# EAGLE library part DF12A-60DS (library sf-keyglove)
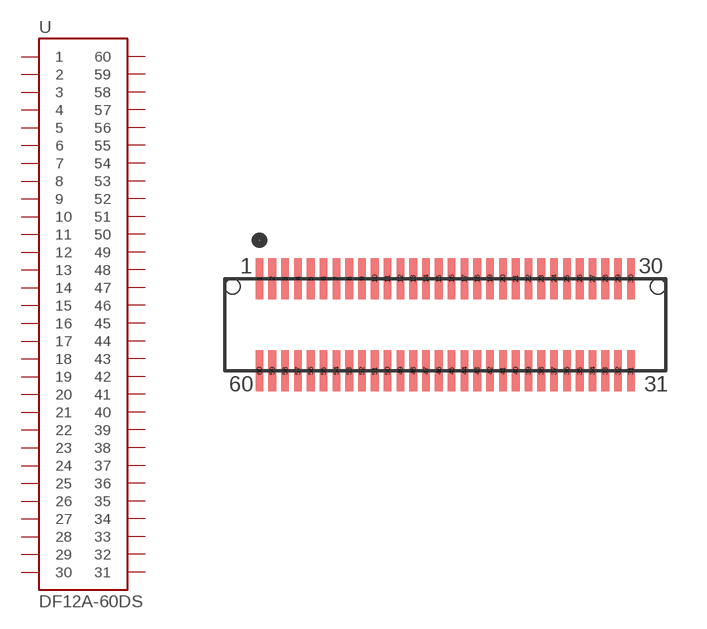
[diagram p14: symbol with the pads of DF12A-60DS; footprint DF12A-60DS]

Designator prefix -

## DF12A-60DS  [DF12A-60DS]
1  1
2  2
3  3
4  4
5  5
6  6
7  7
8  8
9  9
10  10
11  11
12  12
13  13
14  14
15  15
16  16
17  17
18  18
19  19
20  20
21  21
22  22
23  23
24  24
25  25
26  26
27  27
28  28
29  29
30  30
31  31
32  32
33  33
34  34
35  35
36  36
37  37
38  38
39  39
40  40
41  41
42  42
43  43
44  44
45  45
46  46
47  47
48  48
49  49
50  50
51  51
52  52
53  53
54  54
55  55
56  56
57  57
58  58
59  59
60  60

## Footprint DF12A-60DS (pad centres in mm)
smd 0.3 x 1.6: 1 -7.25,1.8; 2 -6.75,1.8; 3 -6.25,1.8; 4 -5.75,1.8; 5 -5.25,1.8; 6 -4.75,1.8; 7 -4.25,1.8; 8 -3.75,1.8; 9 -3.25,1.8; 10 -2.75,1.8; 11 -2.25,1.8; 12 -1.75,1.8; 13 -1.25,1.8; 14 -0.75,1.8; 15 -0.25,1.8; 16 0.25,1.8; 17 0.75,1.8; 18 1.25,1.8; 19 1.75,1.8; 20 2.25,1.8; 21 2.75,1.8; 22 3.25,1.8; 23 3.75,1.8; 24 4.25,1.8; 25 4.75,1.8; 26 5.25,1.8; 27 5.75,1.8; 28 6.25,1.8; 29 6.75,1.8; 30 7.25,1.8; 31 7.25,-1.8; 32 6.75,-1.8; 33 6.25,-1.8; 34 5.75,-1.8; 35 5.25,-1.8; 36 4.75,-1.8; 37 4.25,-1.8; 38 3.75,-1.8; 39 3.25,-1.8; 40 2.75,-1.8; 41 2.25,-1.8; 42 1.75,-1.8; 43 1.25,-1.8; 44 0.75,-1.8; 45 0.25,-1.8; 46 -0.25,-1.8; 47 -0.75,-1.8; 48 -1.25,-1.8; 49 -1.75,-1.8; 50 -2.25,-1.8; 51 -2.75,-1.8; 52 -3.25,-1.8; 53 -3.75,-1.8; 54 -4.25,-1.8; 55 -4.75,-1.8; 56 -5.25,-1.8; 57 -5.75,-1.8; 58 -6.25,-1.8; 59 -6.75,-1.8; 60 -7.25,-1.8
hole 0.6 at 8.3,1.5
hole 0.6 at -8.3,1.5